# EAGLE library part ARDUCAM (library Sensors)
ArduCam Module
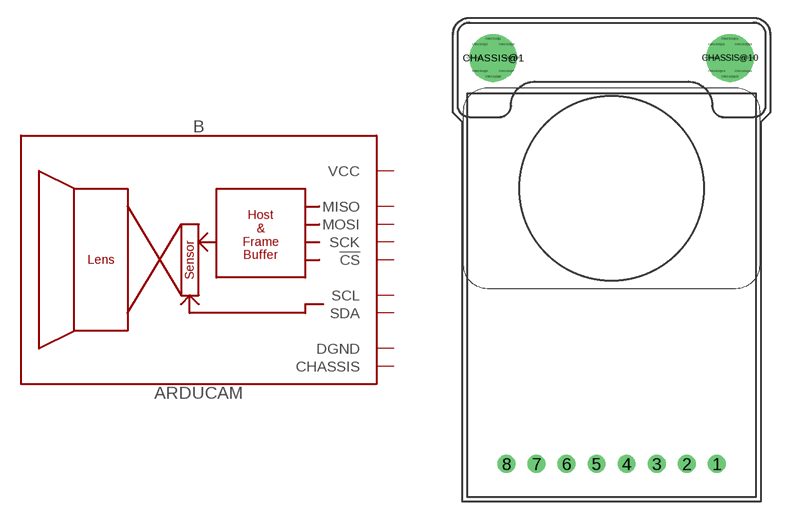
[diagram p2: symbol with the pads of ARDUCAM; footprint ARDUCAM]

Designator prefix B

## ARDUCAM-5MP-1.7MM-F2.8 (LENS: 1.7mm f2.8; SKU: 66-0005; VALUE: ArduCam OV5642), ARDUCAM-5MP-12MM-F2.8 (LENS: 12mm f2.8; SKU: 66-0005; VALUE: ArduCam OV5642)  [ARDUCAM]
1  !CS  in
2  MOSI  in
3  MISO  out
4  SCK  in
5  DGND  pwr
6  VCC  pwr
7  SDA
8  SCL  in
CHASSIS@1  CHASSIS
CHASSIS@2  CHASSIS
CHASSIS@3  CHASSIS
CHASSIS@4  CHASSIS
CHASSIS@5  CHASSIS
CHASSIS@6  CHASSIS
CHASSIS@7  CHASSIS
CHASSIS@8  CHASSIS
CHASSIS@9  CHASSIS
CHASSIS@10  CHASSIS
CHASSIS@11  CHASSIS
CHASSIS@12  CHASSIS
CHASSIS@13  CHASSIS
CHASSIS@14  CHASSIS
CHASSIS@15  CHASSIS
CHASSIS@16  CHASSIS
CHASSIS@17  CHASSIS
CHASSIS@18  CHASSIS

## Footprint ARDUCAM (pad centres in mm)
ArduCAM Module
drill 1: 1 8.89,0; 2 6.35,0; 3 3.81,0; 4 1.27,0; 5 -1.27,0; 6 -3.81,0; 7 -6.35,0; 8 -8.89,0
drill 2.2 pad 4: CHASSIS@1 -10,34.3; CHASSIS@10 10,34.3
drill 0.35 pad 0.6: CHASSIS@2 -10,35.9; CHASSIS@3 -11.131,35.431; CHASSIS@4 -11.6,34.3; CHASSIS@5 -11.131,33.169; CHASSIS@6 -10,32.7; CHASSIS@7 -8.869,33.169; CHASSIS@8 -8.4,34.3; CHASSIS@9 -8.869,35.431; CHASSIS@11 10,35.9; CHASSIS@12 8.869,35.431; CHASSIS@13 8.4,34.3; CHASSIS@14 8.869,33.169; CHASSIS@15 10,32.7; CHASSIS@16 11.131,33.169; CHASSIS@17 11.6,34.3; CHASSIS@18 11.131,35.431